# EAGLE library part 1761681-1 (library 1761681-1)
Body Features: Primary Product Color Black | Connector Profile Low | Daisy Chain With | Configuration Features: PCB Mount Orientation Vertical | Number of Positions 6 | Number of Rows 2 | Contact Features: Contact Mating Area Plating Material Thickness 15 MICIN | Contact Type Pin | PCB Contact Termination Area Plating Material Tin | Contact Base Material Phosphor Bronze | PCB Contact Termination Area Plating Material Thickness 100 MICIN | Contact Current Rating (Max) 1 AMP | Contact Underplating Material Ni Source: Datasheet <https://www.te.com/commerce/DocumentDelivery/DDEController?Action=showdoc&DocId=Customer Drawing1761681A1pdfEnglishENG_CD_1761681_A1.pdf1761681-1>
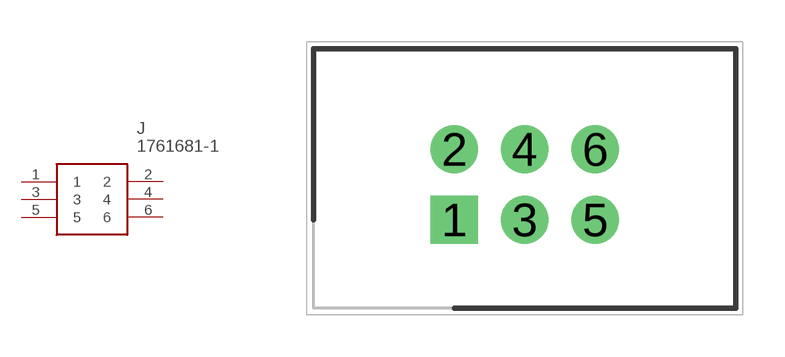
[diagram p0: symbol with the pads of SHDR6W67P254_2X3_1524X916X922P; footprint SHDR6W67P254_2X3_1524X916X922P]

Designator prefix J

## 1761681-1 (Description: Body Features: Primary Product Color Black | Connector Profile Low | Daisy Chain With | Configuration Features: PCB Mount Orientation Vertical | Number of Positions 6 | Number of Rows 2 | Contact Features: Contact Mating Area Plating Material Thickness 15 MICIN | Contact Type Pin | PCB Contact Termination Area Plating Material Tin | Contact Base Material Phosphor Bronze | PCB Contact Termination Area Plating Material Thickness 100 MICIN | Contact Current Rating (Max) 1 AMP | Contact Underplating Material Ni; Height: 9.22mm; Manufacturer_Name: TE Connectivity; Manufacturer_Part_Number: 1761681-1; Mouser_Part_Number: 571-1761681-1; Mouser_Price-Stock: https://www.mouser.co.uk/ProductDetail/TE-Connectivity/1761681-1?qs=BqFpTYCQ3dLAeZ2wzdz7aw%3D%3D)  [SHDR6W67P254_2X3_1524X916X922P]
1  1
2  2
3  3
4  4
5  5
6  6

## Footprint SHDR6W67P254_2X3_1524X916X922P (pad centres in mm)
1761681-1
drill 1.15 pad 1.725 square: 1 0,0
drill 1.15 pad 1.725: 2 0,2.54; 3 2.54,0; 4 2.54,2.54; 5 5.08,0; 6 5.08,2.54